# Altium footprint library Solder_Bump.PCBLIB: 1 footprints
Each footprint in its own frame and in the unit in brackets; x right, y up, seen from the top. Pads: shape width x height; smd on the part's side, far side on the other; paste and mask are expansions set on the pad; w line width, h text height; cw(c..) or ccw(c..) is an arc to the next point about the centre after c.
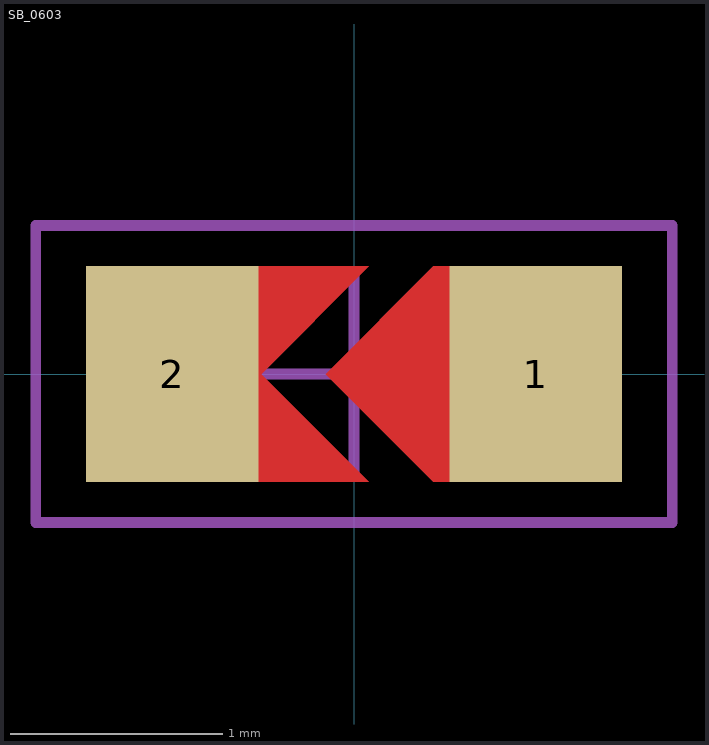
[diagram p0: the footprint, top view; thin cyan lines are the x and y axes]

## SB_0603 [mil] "Solder Bump"
pads (2):
  rect 32x40 smd: 1(33.75,0) 2(-33.75,0)
Top Layer:
  region: -26.25,0 -17.25,0 2.75,-20 -26.25,-20
  region: -26.25,0 -17.25,0 2.75,20 -26.25,20
  region: 23.75,20 14.75,20 -5.25,0 14.75,-20 23.75,-20
Top Paste:
  region: -26.25,0 -17.25,0 2.75,-20 -26.25,-20
  region: -26.25,0 -17.25,0 2.75,20 -26.25,20
  region: 23.75,20 14.75,20 -5.25,0 14.75,-20 23.75,-20
Top Solder:
  region: -26.25,0 -12.25,0 11.75,-24 -26.25,-24
  region: -26.25,0 -12.25,0 11.75,24 -26.25,24
  region: 23.75,24 13.75,24 -10.25,0 13.75,-24 23.75,-24
Top Assembly:
  lines w1.97: -59.06,-27.56 -59.06,27.56 59.06,27.56 59.06,-27.56 -59.06,-27.56
Top Courtyard:
  lines w1.97: -59.06,-27.56 59.06,-27.56 59.06,27.56 -59.06,27.56 -59.06,-27.56
Top Designator:
  text ".Designator" at -50,-10 h19.68
Top Component Center:
  lines w1.97: -18.7,0 18.7,0 ; 0,-18.7 0,18.7